# Altium integrated library VM3000.IntLib: 1 symbol
Pins are listed as number, name and electrical type; pins without a type are passive.

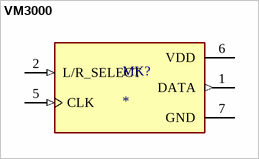
[diagram p0: symbol VM3000]

## VM3000
designator MK?
20 Hz ~ 8 kHz Digital, PDM Microphone MEMS (Silicon) 1.6 V ~ 3.6 V Omnidirectional (-26dB Â±1dB @ 94dB SPL) Solder Pads; MF: Vesper Technologies Inc.; MP: VM3000; Check_prices: https://www.snapeda.com/parts/VM3000/Vesper/view-part/?ref=eda; Availability: In Stock; Price: None; Package: Vesper Technologies Inc.; Value: *; Purchase-URL: https://pricing.snapeda.com/search/part/VM3000/?ref=eda; SnapEDA_Link: https://www.snapeda.com/parts/VM3000/Vesper/view-part/?ref=snap
footprint MIC_VM3000
pins: 1 DATA (out), 2 L/R_SELECT (in), 5 CLK (in), 6 VDD (power), 7 GND (power)